# EAGLE library part MAGIC_CAN_BACKPACK (library Buckeye Current)
Magic CAN Node backpack, current as of 2013-11-16 NOTE: There are other connectors you should be aware of on MCN (especially the two AMPSEAL connectors at the bottom of the board). Be careful of your z-height on the bottom side of the board. Consult MCN schematic when unsure.
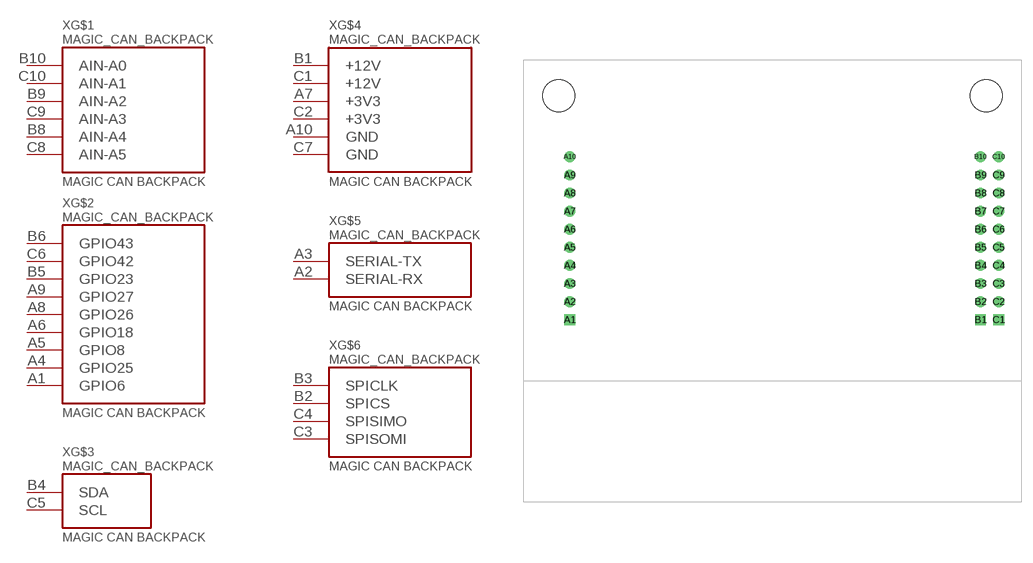
[diagram p0: symbol with the pads of MAGIC_CAN_BACKPACK; footprint MAGIC_CAN_BACKPACK]

Designator prefix X; gates G$1=MCB_ANALOG G$2=MCB_GPIO G$3=MCB_I2C G$4=MCB_POWER G$5=MCB_SERIAL G$6=MCB_SPI

## MAGIC_CAN_BACKPACK  [MAGIC_CAN_BACKPACK]
A1  G$2:GPIO6
A2  G$5:SERIAL-RX  in
A3  G$5:SERIAL-TX  out
A4  G$2:GPIO25
A5  G$2:GPIO8
A6  G$2:GPIO18
A7  G$4:+3V3  pwr
A8  G$2:GPIO26
A9  G$2:GPIO27
A10  G$4:GND  pwr
B1  G$4:+12V  pwr
B2  G$6:SPICS  out
B3  G$6:SPICLK  out
B4  G$3:SDA
B5  G$2:GPIO23
B6  G$2:GPIO43
B8  G$1:AIN-A4  in
B9  G$1:AIN-A2  in
B10  G$1:AIN-A0  in
C1  G$4:+12V  pwr
C2  G$4:+3V3  pwr
C3  G$6:SPISOMI  in
C4  G$6:SPISIMO  out
C5  G$3:SCL
C6  G$2:GPIO42
C7  G$4:GND  pwr
C8  G$1:AIN-A5  in
C9  G$1:AIN-A3  in
C10  G$1:AIN-A1  in

## Footprint MAGIC_CAN_BACKPACK (pad centres in mm)
drill 1.016 square: A1 -28.448,28.57; B1 29.21,28.57; C1 31.75,28.57
drill 1.016: A2 -28.448,31.11; A3 -28.448,33.65; A4 -28.448,36.19; A5 -28.448,38.73; A6 -28.448,41.27; A7 -28.448,43.81; A8 -28.448,46.35; A9 -28.448,48.89; A10 -28.448,51.43; B2 29.21,31.11; B3 29.21,33.65; B4 29.21,36.19; B5 29.21,38.73; B6 29.21,41.27; B7 29.21,43.81; B8 29.21,46.35; B9 29.21,48.89; B10 29.21,51.43; C2 31.75,31.11; C3 31.75,33.65; C4 31.75,36.19; C5 31.75,38.73; C6 31.75,41.27; C7 31.75,43.81; C8 31.75,46.35; C9 31.75,48.89; C10 31.75,51.43
hole 4.5 at 30,60
hole 4.5 at -30,60